# Altium integrated library Infineon_Microcontroller.IntLib: 721 symbols (part 30 of 66)
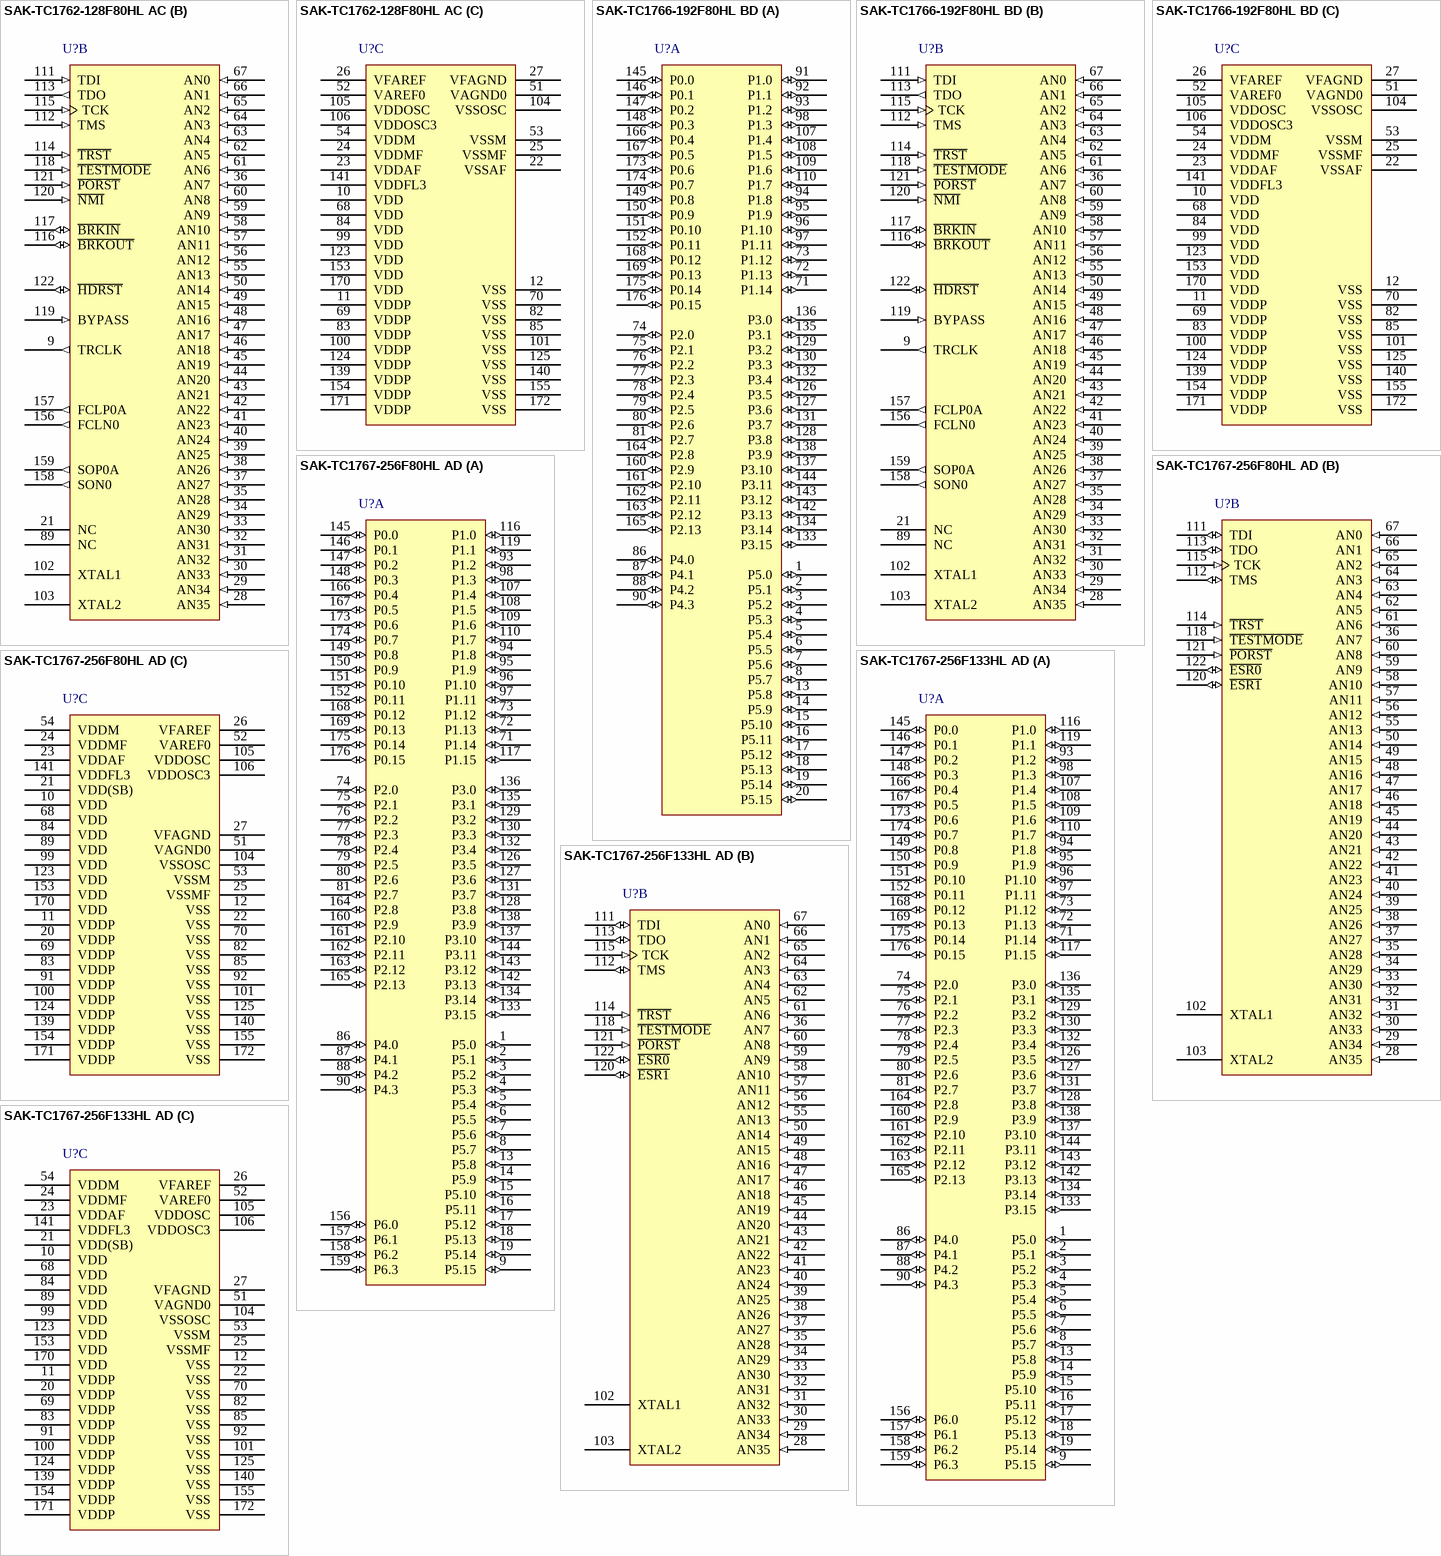
[diagram p147: symbols SAK-TC1762-128F80HL AC to SAK-TC1767-256F133HL AD]

## SAK-TC1766-192F80HL BD
designator U?
80 MHz AUDO MCU with 1.5 MB Program Memory, 108 KByte SRAM, 3.3 V, -40 to 125 degC, PG-LQFP-176, Reel, Green; Manufacturer: Infineon; PartNumber: SAK-TC1766-192F80HL BD; A / D input lines (incl. FADC): 36; CAN Nodes: 2; Digital I/O Lines: 81; DMA Channels: 8; DSP functionality (e.g MDU/MAC): TRUE; External Bus interface: FALSE; I/O Operation Voltages: 3.3 V; Instruction set architecture: TriCore v1.3; Instruction width [bits]: 32/16; LIN BSL loader (for fast Flash programming): FALSE; Max Clock Frequency: 80 MHz; Power Modes: 4; Program Memory: 1.5 MB; Serial I/O Interfaces: 7; Timed I/O Pins (PWM-Ch,CAPCOM): 48; Timer / Counter: 98; Type of Memory: Flash; Type of Serial I/O Interfaces: ASC(2), SSC(2), MSC(1), MLI(2); DatasheetVersion: Rev. 1.0; PackageVersion: Jun-08; PackageReference: PG-LQFP-176-2; PackageDescription: 176-Pin Plastic (Green) Low Profile Quad Flat Package, Body 24 x 24 mm, Pitch 0.5 mm; Supplier 1: Mouser; Supplier Part Number 1: 726-SAKTC1766192F80H; Supplier 2: Digi-Key; Supplier Part Number 2: SAK-TC1766-192F80HLBDINTR-ND; Supplier 3: Digi-Key; Supplier Part Number 3: SAK-TC1766-192F80HLBDINCT-ND; Supplier 4: Digi-Key; Supplier Part Number 4: SAK-TC1766-192F80HLBDINDKR-ND; E2PROM Emulation (Data-Flash): TRUE; FlexRay TM: FALSE; Floating Point Unit: TRUE; Green: TRUE; Halogen-free: TRUE; Number of ADC Modules: 2; On-chip clock generation: TRUE; On-chip Voltage Regulator: FALSE; Oscillator Watchdog: TRUE; Packing: Reel; Peripheral Control Processor (PCP): TRUE; SRAM (incl. Cache): 108 KByte; Watchdog Timer: TRUE; Mounting Technology: Surface Mount; ComponentLink1Description: Manufacturer URL; ComponentLink1URL: http://www.infineon.com/; ComponentLink2Description: Datasheet; ComponentLink2URL: http://www.infineon.com/dgdl/TC1766_ds_v10.pdf?folderId=db3a304412b407950112b409ae7c0343&fileId=db3a304313553140011368a9b40e0224; ComponentLink3Description: Package Specification; ComponentLink3URL: http://www.infineon.com/dgdl/PG-LQFP-176-2-Package_Overview.pdf?folderId=db3a30431a5c32f2011a91a4a6285a2c&fileId=db3a30431a5c32f2011a91a4f6ee5a2d
footprint INF-PG-LQFP-176-2_N (QFP, 176-Leads, Body 24x24mm, Pitch 0.5mm, IPC Medium Density)
footprint INF-PG-LQFP-176-2_L (QFP, 176-Leads, Body 24x24mm, Pitch 0.5mm, IPC High Density)
footprint INF-PG-LQFP-176-2_M (QFP, 176-Leads, Body 24x24mm, Pitch 0.5mm, IPC Low Density)
part A pins: 1 P5.0 (io), 2 P5.1 (io), 3 P5.2 (io), 4 P5.3 (io), 5 P5.4 (io), 6 P5.5 (io), 7 P5.6 (io), 8 P5.7 (io), 13 P5.8 (io), 14 P5.9 (io), 15 P5.10 (io), 16 P5.11 (io), 17 P5.12 (io), 18 P5.13 (io), 19 P5.14 (io), 20 P5.15 (io), 71 P1.14 (io), 72 P1.13 (io), 73 P1.12 (io), 74 P2.0 (io), 75 P2.1 (io), 76 P2.2 (io), 77 P2.3 (io), 78 P2.4 (io), 79 P2.5 (io), 80 P2.6 (io), 81 P2.7 (io), 86 P4.0 (io), 87 P4.1 (io), 88 P4.2 (io), 90 P4.3 (io), 91 P1.0 (io), 92 P1.1 (io), 93 P1.2 (io), 94 P1.8 (io), 95 P1.9 (io), 96 P1.10 (io), 97 P1.11 (io), 98 P1.3 (io), 107 P1.4 (io), 108 P1.5 (io), 109 P1.6 (io), 110 P1.7 (io), 126 P3.5 (io), 127 P3.6 (io), 128 P3.8 (io), 129 P3.2 (io), 130 P3.3 (io), 131 P3.7 (io), 132 P3.4 (io), 133 P3.15 (io), 134 P3.14 (io), 135 P3.1 (io), 136 P3.0 (io), 137 P3.10 (io), 138 P3.9 (io), 142 P3.13 (io), 143 P3.12 (io), 144 P3.11 (io), 145 P0.0 (io), 146 P0.1 (io), 147 P0.2 (io), 148 P0.3 (io), 149 P0.8 (io), 150 P0.9 (io), 151 P0.10 (io), 152 P0.11 (io), 160 P2.9 (io), 161 P2.10 (io), 162 P2.11 (io), 163 P2.12 (io), 164 P2.8 (io), 165 P2.13 (io), 166 P0.4 (io), 167 P0.5 (io), 168 P0.12 (io), 169 P0.13 (io), 173 P0.6 (io), 174 P0.7 (io), 175 P0.14 (io), 176 P0.15 (io)
part B pins: 9 TRCLK (out) "Trace Clock for OCDS_L2 Lines", 21 NC "Not Connected", 28 AN35 (in) "Analog input 35", 29 AN34 (in) "Analog input 34", 30 AN33 (in) "Analog input 33", 31 AN32 (in) "Analog input 32", 32 AN31 (in) "Analog input 31", 33 AN30 (in) "Analog input 30", 34 AN29 (in) "Analog input 29", 35 AN28 (in) "Analog input 28", 36 AN7 (in) "Analog input 7", 37 AN27 (in) "Analog input 27", 38 AN26 (in) "Analog input 26", 39 AN25 (in) "Analog input 25", 40 AN24 (in) "Analog input 24", 41 AN23 (in) "Analog input 23", 42 AN22 (in) "Analog input 22", 43 AN21 (in) "Analog input 21", 44 AN20 (in) "Analog input 20", 45 AN19 (in) "Analog input 19", 46 AN18 (in) "Analog input 18", 47 AN17 (in) "Analog input 17", 48 AN16 (in) "Analog input 16", 49 AN15 (in) "Analog input 15", 50 AN14 (in) "Analog input 14", 55 AN13 (in) "Analog input 13", 56 AN12 (in) "Analog input 12", 57 AN11 (in) "Analog input 11", 58 AN10 (in) "Analog input 10", 59 AN9 (in) "Analog input 9", 60 AN8 (in) "Analog input 8", 61 AN6 (in) "Analog input 6", 62 AN5 (in) "Analog input 5", 63 AN4 (in) "Analog input 4", 64 AN3 (in) "Analog input 3", 65 AN2 (in) "Analog input 2", 66 AN1 (in) "Analog input 1", 67 AN0 (in) "Analog input 0", 89 NC "Not Connected", 102 XTAL1 "Oscillator/PLL/Clock Generator Input Pin", 103 XTAL2 "Oscillator/PLL/Clock Generator Output Pin", 111 TDI (in) "JTAG Module Serial Data Input", 112 TMS (in) "JTAG Module State Machine Control Input", 113 TDO (out) "JTAG Module Serial Data Output", 114 ~{TRST} (in) "JTAG Module Reset/Enable Input", 115 TCK (in) "JTAG Module Clock Input", 116 ~{BRKOUT} (io) "OCDS Break Output (Alternate Input)", 117 ~{BRKIN} (io) "OCDS Break Input (Alternate Output)", 118 ~{TESTMODE} (in) "Test Mode Select Input", 119 BYPASS (in) "PLL Clock Bypass Select Input", 120 ~{NMI} (in) "Non-Maskable Interrupt Input", 121 ~{PORST} (in) "Power-on Reset Input", 122 ~{HDRST} (io) "Hardware Reset Input / Reset Indication Output", 156 FCLN0 (out) "MSC0 Differential Driver Clock Output Negative", 157 FCLP0A (out) "MSC0 Differential Driver Clock Output Positive A", 158 SON0 (out) "MSC0 Differential Driver Serial Data Output Negative", 159 SOP0A (out) "MSC0 Differential Driver Serial Data Output Positive A"
part C pins: 10 VDD (power) "Core Power Supply (1.5 V)", 11 VDDP (power) "Port Power Supply (3.3 V)", 12 VSS (power) "Ground", 22 VSSAF (power) "FADC Analog Part Logic Ground for VDDAF", 23 VDDAF (power) "FADC Analog Part Logic Power Supply (1.5 V)", 24 VDDMF (power) "FADC Analog Part Power Supply (3.3 V)", 25 VSSMF (power) "FADC Analog Part Ground for VDDMF", 26 VFAREF (power) "FADC Reference Voltage", 27 VFAGND (power) "FADC Reference Ground", 51 VAGND0 (power) "ADC Reference Ground", 52 VAREF0 (power) "ADC Reference Voltage", 53 VSSM (power) "ADC Analog Part Ground for VDDM", 54 VDDM (power) "ADC Analog Part Power Supply (3.3 V)", 68 VDD (power) "Core Power Supply (1.5 V)", 69 VDDP (power) "Port Power Supply (3.3 V)", 70 VSS (power) "Ground", 82 VSS (power) "Ground", 83 VDDP (power) "Port Power Supply (3.3 V)", 84 VDD (power) "Core Power Supply (1.5 V)", 85 VSS (power) "Ground", 99 VDD (power) "Core Power Supply (1.5 V)", 100 VDDP (power) "Port Power Supply (3.3 V)", 101 VSS (power) "Ground", 104 VSSOSC (power) "Main Oscillator and PLL Ground", 105 VDDOSC (power) "Main Oscillator and PLL Power Supply (1.5 V)", 106 VDDOSC3 (power) "Main Oscillator Power Supply (3.3 V)", 123 VDD (power) "Core Power Supply (1.5 V)", 124 VDDP (power) "Port Power Supply (3.3 V)", 125 VSS (power) "Ground", 139 VDDP (power) "Port Power Supply (3.3 V)", 140 VSS (power) "Ground", 141 VDDFL3 (power) "Power Supply for Flash (3.3 V)", 153 VDD (power) "Core Power Supply (1.5 V)", 154 VDDP (power) "Port Power Supply (3.3 V)", 155 VSS (power) "Ground", 170 VDD (power) "Core Power Supply (1.5 V)", 171 VDDP (power) "Port Power Supply (3.3 V)", 172 VSS (power) "Ground"

## SAK-TC1767-256F80HL AD
designator U?
80 MHz AUDO MCU with 2 MB Program Memory, 128 KByte SRAM, 3.3 V; 5 V, -40 to 125 degC, PG-LQFP-176, Reel, Green; Manufacturer: Infineon; PartNumber: SAK-TC1767-256F80HL AD; A / D input lines (incl. FADC): 36; CAN Nodes: 2; Digital I/O Lines: 88; DMA Channels: 8; DSP functionality (e.g MDU/MAC): TRUE; External Bus interface: FALSE; I/O Operation Voltages: 3.3 V, 5 V; Instruction set architecture: TriCore v1.3.1; Instruction width [bits]: 32/16; LIN BSL loader (for fast Flash programming): FALSE; Max Clock Frequency: 80 MHz; Power Modes: 3; Program Memory: 2 MB; Serial I/O Interfaces: 6; Timed I/O Pins (PWM-Ch,CAPCOM): 80; Timer / Counter: 130; Type of Memory: Flash; Type of Serial I/O Interfaces: ASC(2), SSC(2), MSC(1), MLI(1); DatasheetVersion: Rev. 1.3; PackageVersion: Aug-08; PackageReference: PG-LQFP-176-5; PackageDescription: 176-Pin Plastic (Green) Low Profile Quad Flat Package, Body 24 x 24 mm, Pitch 0.5 mm; Supplier 1: Digi-Key; Supplier Part Number 1: SAK-TC1767-256F80HL AD-ND; E2PROM Emulation (Data-Flash): TRUE; FlexRay TM: FALSE; Floating Point Unit: TRUE; Green: TRUE; Number of ADC Modules: 2; On-chip clock generation: TRUE; On-chip Voltage Regulator: FALSE; Oscillator Watchdog: TRUE; Packing: Reel; Peripheral Control Processor (PCP): TRUE; SRAM (incl. Cache): 128 KByte; Watchdog Timer: TRUE; Mounting Technology: Surface Mount; ComponentLink1Description: Manufacturer URL; ComponentLink1URL: http://www.infineon.com/; ComponentLink2Description: Datasheet; ComponentLink2URL: http://www.infineon.com/dgdl/TC1767_DS_V1.3.pdf?folderId=db3a3043156fd5730115b892639c0e97&fileId=db3a30431be39b97011bff8570697bdb; ComponentLink3Description: Package Specification; ComponentLink3URL: http://www.infineon.com/dgdl/PG-LQFP-176-5-Package_Overview.pdf?folderId=db3a30431b3e89eb011b9dcad2aa0d1e&fileId=db3a30431b3e89eb011bc12d64b30464
footprint INF-PG-LQFP-176-5_N (QFP, 176-Leads, Body 24x24mm, Pitch 0.5mm, IPC Medium Density)
footprint INF-PG-LQFP-176-5_L (QFP, 176-Leads, Body 24x24mm, Pitch 0.5mm, IPC High Density)
footprint INF-PG-LQFP-176-5_M (QFP, 176-Leads, Body 24x24mm, Pitch 0.5mm,IPC Low Density)
part A pins: 1 P5.0 (io), 2 P5.1 (io), 3 P5.2 (io), 4 P5.3 (io), 5 P5.4 (io), 6 P5.5 (io), 7 P5.6 (io), 8 P5.7 (io), 9 P5.15 (io), 13 P5.8 (io), 14 P5.9 (io), 15 P5.10 (io), 16 P5.11 (io), 17 P5.12 (io), 18 P5.13 (io), 19 P5.14 (io), 71 P1.14 (io), 72 P1.13 (io), 73 P1.12 (io), 74 P2.0 (io), 75 P2.1 (io), 76 P2.2 (io), 77 P2.3 (io), 78 P2.4 (io), 79 P2.5 (io), 80 P2.6 (io), 81 P2.7 (io), 86 P4.0 (io), 87 P4.1 (io), 88 P4.2 (io), 90 P4.3 (io), 93 P1.2 (io), 94 P1.8 (io), 95 P1.9 (io), 96 P1.10 (io), 97 P1.11 (io), 98 P1.3 (io), 107 P1.4 (io), 108 P1.5 (io), 109 P1.6 (io), 110 P1.7 (io), 116 P1.0 (io), 117 P1.15 (io), 119 P1.1 (io), 126 P3.5 (io), 127 P3.6 (io), 128 P3.8 (io), 129 P3.2 (io), 130 P3.3 (io), 131 P3.7 (io), 132 P3.4 (io), 133 P3.15 (io), 134 P3.14 (io), 135 P3.1 (io), 136 P3.0 (io), 137 P3.10 (io), 138 P3.9 (io), 142 P3.13 (io), 143 P3.12 (io), 144 P3.11 (io), 145 P0.0 (io), 146 P0.1 (io), 147 P0.2 (io), 148 P0.3 (io), 149 P0.8 (io), 150 P0.9 (io), 151 P0.10 (io), 152 P0.11 (io), 156 P6.0 (io), 157 P6.1 (io), 158 P6.2 (io), 159 P6.3 (io), 160 P2.9 (io), 161 P2.10 (io), 162 P2.11 (io), 163 P2.12 (io), 164 P2.8 (io), 165 P2.13 (io), 166 P0.4 (io), 167 P0.5 (io), 168 P0.12 (io), 169 P0.13 (io), 173 P0.6 (io), 174 P0.7 (io), 175 P0.14 (io), 176 P0.15 (io)
part B pins: 28 AN35 (in) "Analog Input 35", 29 AN34 (in) "Analog Input 34", 30 AN33 (in) "Analog Input 33", 31 AN32 (in) "Analog Input 32", 32 AN31 (in) "Analog Input 31", 33 AN30 (in) "Analog Input 30", 34 AN29 (in) "Analog Input 29", 35 AN28 (in) "Analog Input 28", 36 AN7 (in) "Analog Input 7", 37 AN27 (in) "Analog Input 27", 38 AN26 (in) "Analog Input 26", 39 AN25 (in) "Analog Input 25", 40 AN24 (in) "Analog Input 24", 41 AN23 (in) "Analog Input 23", 42 AN22 (in) "Analog Input 22", 43 AN21 (in) "Analog Input 21", 44 AN20 (in) "Analog Input 20", 45 AN19 (in) "Analog Input 19", 46 AN18 (in) "Analog Input 18", 47 AN17 (in) "Analog Input 17", 48 AN16 (in) "Analog Input 16", 49 AN15 (in) "Analog Input 15", 50 AN14 (in) "Analog Input 14", 55 AN13 (in) "Analog Input 13", 56 AN12 (in) "Analog Input 12", 57 AN11 (in) "Analog Input 11", 58 AN10 (in) "Analog Input 10", 59 AN9 (in) "Analog Input 9", 60 AN8 (in) "Analog Input 8", 61 AN6 (in) "Analog Input 6", 62 AN5 (in) "Analog Input 5", 63 AN4 (in) "Analog Input 4", 64 AN3 (in) "Analog Input 3", 65 AN2 (in) "Analog Input 2", 66 AN1 (in) "Analog Input 1", 67 AN0 (in) "Analog Input 0", 102 XTAL1 "Main Oscillator Input", 103 XTAL2 "Main Oscillator Output", 111 TDI (io), 112 TMS (io), 113 TDO (io), 114 ~{TRST} (in) "JTAG Reset Input", 115 TCK (in), 118 ~{TESTMODE} (in) "Test Mode Select Input", 120 ~{ESR1} (io) "External System Request Reset Input 1", 121 ~{PORST} (in) "Power On Reset Input", 122 ~{ESR0} (io) "External System Request Reset Input 0"
part C pins: 10 VDD (power) "Digital Core Power Supply (1.5V)", 11 VDDP (power) "Port Power Supply (3.3V)", 12 VSS (power) "Digital Ground", 20 VDDP (power) "Port Power Supply (3.3V)", 21 VDD(SB) (power) "Digital Core Power Supply (1.5V)", 22 VSS (power) "Digital Ground", 23 VDDAF (power) "FADC Analog Part Logic Power Supply (1.5V)", 24 VDDMF (power) "FADC Analog Part Power Supply (3.3V)", 25 VSSMF (power), 26 VFAREF (power) "FADC Reference Voltage", 27 VFAGND (power) "FADC Reference Ground", 51 VAGND0 (power) "ADC Reference Ground", 52 VAREF0 (power), 53 VSSM (power) "ADC Analog Part Ground", 54 VDDM (power) "ADC Analog Part Power Supply (3.3V - 5V)", 68 VDD (power) "Digital Core Power Supply (1.5V)", 69 VDDP (power) "Port Power Supply (3.3V)", 70 VSS (power) "Digital Ground", 82 VSS (power) "Digital Ground", 83 VDDP (power) "Port Power Supply (3.3V)", 84 VDD (power) "Digital Core Power Supply (1.5V)", 85 VSS (power) "Digital Ground", 89 VDD (power) "Digital Core Power Supply (1.5V)", 91 VDDP (power) "Port Power Supply (3.3V)", 92 VSS (power) "Digital Ground", 99 VDD (power) "Digital Core Power Supply (1.5V)", 100 VDDP (power) "Port Power Supply (3.3V)", 101 VSS (power) "Digital Ground", 104 VSSOSC (power) "Main Oscillator and PLL Ground", 105 VDDOSC (power) "Main Oscillator and PLL Power Supply (1.5V)", 106 VDDOSC3 (power) "Main Oscillator Power Supply (3.3V)", 123 VDD (power) "Digital Core Power Supply (1.5V)", 124 VDDP (power) "Port Power Supply (3.3V)", 125 VSS (power) "Digital Ground", 139 VDDP (power) "Port Power Supply (3.3V)", 140 VSS (power) "Digital Ground", 141 VDDFL3 (power) "Power Supply for Flash (3.3V)", 153 VDD (power) "Digital Core Power Supply (1.5V)", 154 VDDP (power) "Port Power Supply (3.3V)", 155 VSS (power) "Digital Ground", 170 VDD (power) "Digital Core Power Supply (1.5V)", 171 VDDP (power) "Port Power Supply (3.3V)", 172 VSS (power) "Digital Ground"

## SAK-TC1767-256F133HL AD
designator U?
133 MHz AUDO MCU with 2 MB Program Memory, 128 KByte SRAM, 3.3 V; 5 V, -40 to 125 degC, PG-LQFP-176, Reel, Green; Manufacturer: Infineon; PartNumber: SAK-TC1767-256F133HL AD; A / D input lines (incl. FADC): 36; CAN Nodes: 2; Digital I/O Lines: 88; DMA Channels: 8; DSP functionality (e.g MDU/MAC): TRUE; External Bus interface: FALSE; I/O Operation Voltages: 3.3 V, 5 V; Instruction set architecture: TriCore v1.3.1; Instruction width [bits]: 32/16; LIN BSL loader (for fast Flash programming): FALSE; Max Clock Frequency: 133 MHz; Power Modes: 3; Program Memory: 2 MB; Serial I/O Interfaces: 6; Timed I/O Pins (PWM-Ch,CAPCOM): 80; Timer / Counter: 130; Type of Memory: Flash; Type of Serial I/O Interfaces: ASC(2), SSC(2), MSC(1), MLI(1); DatasheetVersion: Rev. 1.3; PackageVersion: Aug-08; PackageReference: PG-LQFP-176-5; PackageDescription: 176-Pin Plastic (Green) Low Profile Quad Flat Package, Body 24 x 24 mm, Pitch 0.5 mm; Supplier 1: Newark; Supplier Part Number 1: 47W3709; Supplier 2: Farnell; Supplier Part Number 2: 2212016; Supplier 3: Digi-Key; Supplier Part Number 3: SAK-TC1767-256F133HL AD-ND; E2PROM Emulation (Data-Flash): TRUE; FlexRay TM: FALSE; Floating Point Unit: TRUE; Green: TRUE; Number of ADC Modules: 2; On-chip clock generation: TRUE; On-chip Voltage Regulator: FALSE; Oscillator Watchdog: TRUE; Packing: Reel; Peripheral Control Processor (PCP): TRUE; SRAM (incl. Cache): 128 KByte; Watchdog Timer: TRUE; Mounting Technology: Surface Mount; ComponentLink1Description: Manufacturer URL; ComponentLink1URL: http://www.infineon.com/; ComponentLink2Description: Datasheet; ComponentLink2URL: http://www.infineon.com/dgdl/TC1767_DS_V1.3.pdf?folderId=db3a3043156fd5730115b892639c0e97&fileId=db3a30431be39b97011bff8570697bdb; ComponentLink3Description: Package Specification; ComponentLink3URL: http://www.infineon.com/dgdl/PG-LQFP-176-5-Package_Overview.pdf?folderId=db3a30431b3e89eb011b9dcad2aa0d1e&fileId=db3a30431b3e89eb011bc12d64b30464
footprint INF-PG-LQFP-176-5_N (QFP, 176-Leads, Body 24x24mm, Pitch 0.5mm, IPC Medium Density)
footprint INF-PG-LQFP-176-5_L (QFP, 176-Leads, Body 24x24mm, Pitch 0.5mm, IPC High Density)
footprint INF-PG-LQFP-176-5_M (QFP, 176-Leads, Body 24x24mm, Pitch 0.5mm,IPC Low Density)
part A pins: 1 P5.0 (io), 2 P5.1 (io), 3 P5.2 (io), 4 P5.3 (io), 5 P5.4 (io), 6 P5.5 (io), 7 P5.6 (io), 8 P5.7 (io), 9 P5.15 (io), 13 P5.8 (io), 14 P5.9 (io), 15 P5.10 (io), 16 P5.11 (io), 17 P5.12 (io), 18 P5.13 (io), 19 P5.14 (io), 71 P1.14 (io), 72 P1.13 (io), 73 P1.12 (io), 74 P2.0 (io), 75 P2.1 (io), 76 P2.2 (io), 77 P2.3 (io), 78 P2.4 (io), 79 P2.5 (io), 80 P2.6 (io), 81 P2.7 (io), 86 P4.0 (io), 87 P4.1 (io), 88 P4.2 (io), 90 P4.3 (io), 93 P1.2 (io), 94 P1.8 (io), 95 P1.9 (io), 96 P1.10 (io), 97 P1.11 (io), 98 P1.3 (io), 107 P1.4 (io), 108 P1.5 (io), 109 P1.6 (io), 110 P1.7 (io), 116 P1.0 (io), 117 P1.15 (io), 119 P1.1 (io), 126 P3.5 (io), 127 P3.6 (io), 128 P3.8 (io), 129 P3.2 (io), 130 P3.3 (io), 131 P3.7 (io), 132 P3.4 (io), 133 P3.15 (io), 134 P3.14 (io), 135 P3.1 (io), 136 P3.0 (io), 137 P3.10 (io), 138 P3.9 (io), 142 P3.13 (io), 143 P3.12 (io), 144 P3.11 (io), 145 P0.0 (io), 146 P0.1 (io), 147 P0.2 (io), 148 P0.3 (io), 149 P0.8 (io), 150 P0.9 (io), 151 P0.10 (io), 152 P0.11 (io), 156 P6.0 (io), 157 P6.1 (io), 158 P6.2 (io), 159 P6.3 (io), 160 P2.9 (io), 161 P2.10 (io), 162 P2.11 (io), 163 P2.12 (io), 164 P2.8 (io), 165 P2.13 (io), 166 P0.4 (io), 167 P0.5 (io), 168 P0.12 (io), 169 P0.13 (io), 173 P0.6 (io), 174 P0.7 (io), 175 P0.14 (io), 176 P0.15 (io)
part B pins: 28 AN35 (in) "Analog Input 35", 29 AN34 (in) "Analog Input 34", 30 AN33 (in) "Analog Input 33", 31 AN32 (in) "Analog Input 32", 32 AN31 (in) "Analog Input 31", 33 AN30 (in) "Analog Input 30", 34 AN29 (in) "Analog Input 29", 35 AN28 (in) "Analog Input 28", 36 AN7 (in) "Analog Input 7", 37 AN27 (in) "Analog Input 27", 38 AN26 (in) "Analog Input 26", 39 AN25 (in) "Analog Input 25", 40 AN24 (in) "Analog Input 24", 41 AN23 (in) "Analog Input 23", 42 AN22 (in) "Analog Input 22", 43 AN21 (in) "Analog Input 21", 44 AN20 (in) "Analog Input 20", 45 AN19 (in) "Analog Input 19", 46 AN18 (in) "Analog Input 18", 47 AN17 (in) "Analog Input 17", 48 AN16 (in) "Analog Input 16", 49 AN15 (in) "Analog Input 15", 50 AN14 (in) "Analog Input 14", 55 AN13 (in) "Analog Input 13", 56 AN12 (in) "Analog Input 12", 57 AN11 (in) "Analog Input 11", 58 AN10 (in) "Analog Input 10", 59 AN9 (in) "Analog Input 9", 60 AN8 (in) "Analog Input 8", 61 AN6 (in) "Analog Input 6", 62 AN5 (in) "Analog Input 5", 63 AN4 (in) "Analog Input 4", 64 AN3 (in) "Analog Input 3", 65 AN2 (in) "Analog Input 2", 66 AN1 (in) "Analog Input 1", 67 AN0 (in) "Analog Input 0", 102 XTAL1 "Main Oscillator Input", 103 XTAL2 "Main Oscillator Output", 111 TDI (io), 112 TMS (io), 113 TDO (io), 114 ~{TRST} (in) "JTAG Reset Input", 115 TCK (in), 118 ~{TESTMODE} (in) "Test Mode Select Input", 120 ~{ESR1} (io) "External System Request Reset Input 1", 121 ~{PORST} (in) "Power On Reset Input", 122 ~{ESR0} (io) "External System Request Reset Input 0"
part C pins: 10 VDD (power) "Digital Core Power Supply (1.5V)", 11 VDDP (power) "Port Power Supply (3.3V)", 12 VSS (power) "Digital Ground", 20 VDDP (power) "Port Power Supply (3.3V)", 21 VDD(SB) (power) "Digital Core Power Supply (1.5V)", 22 VSS (power) "Digital Ground", 23 VDDAF (power) "FADC Analog Part Logic Power Supply (1.5V)", 24 VDDMF (power) "FADC Analog Part Power Supply (3.3V)", 25 VSSMF (power), 26 VFAREF (power) "FADC Reference Voltage", 27 VFAGND (power) "FADC Reference Ground", 51 VAGND0 (power) "ADC Reference Ground", 52 VAREF0 (power), 53 VSSM (power) "ADC Analog Part Ground", 54 VDDM (power) "ADC Analog Part Power Supply (3.3V - 5V)", 68 VDD (power) "Digital Core Power Supply (1.5V)", 69 VDDP (power) "Port Power Supply (3.3V)", 70 VSS (power) "Digital Ground", 82 VSS (power) "Digital Ground", 83 VDDP (power) "Port Power Supply (3.3V)", 84 VDD (power) "Digital Core Power Supply (1.5V)", 85 VSS (power) "Digital Ground", 89 VDD (power) "Digital Core Power Supply (1.5V)", 91 VDDP (power) "Port Power Supply (3.3V)", 92 VSS (power) "Digital Ground", 99 VDD (power) "Digital Core Power Supply (1.5V)", 100 VDDP (power) "Port Power Supply (3.3V)", 101 VSS (power) "Digital Ground", 104 VSSOSC (power) "Main Oscillator and PLL Ground", 105 VDDOSC (power) "Main Oscillator and PLL Power Supply (1.5V)", 106 VDDOSC3 (power) "Main Oscillator Power Supply (3.3V)", 123 VDD (power) "Digital Core Power Supply (1.5V)", 124 VDDP (power) "Port Power Supply (3.3V)", 125 VSS (power) "Digital Ground", 139 VDDP (power) "Port Power Supply (3.3V)", 140 VSS (power) "Digital Ground", 141 VDDFL3 (power) "Power Supply for Flash (3.3V)", 153 VDD (power) "Digital Core Power Supply (1.5V)", 154 VDDP (power) "Port Power Supply (3.3V)", 155 VSS (power) "Digital Ground", 170 VDD (power) "Digital Core Power Supply (1.5V)", 171 VDDP (power) "Port Power Supply (3.3V)", 172 VSS (power) "Digital Ground"

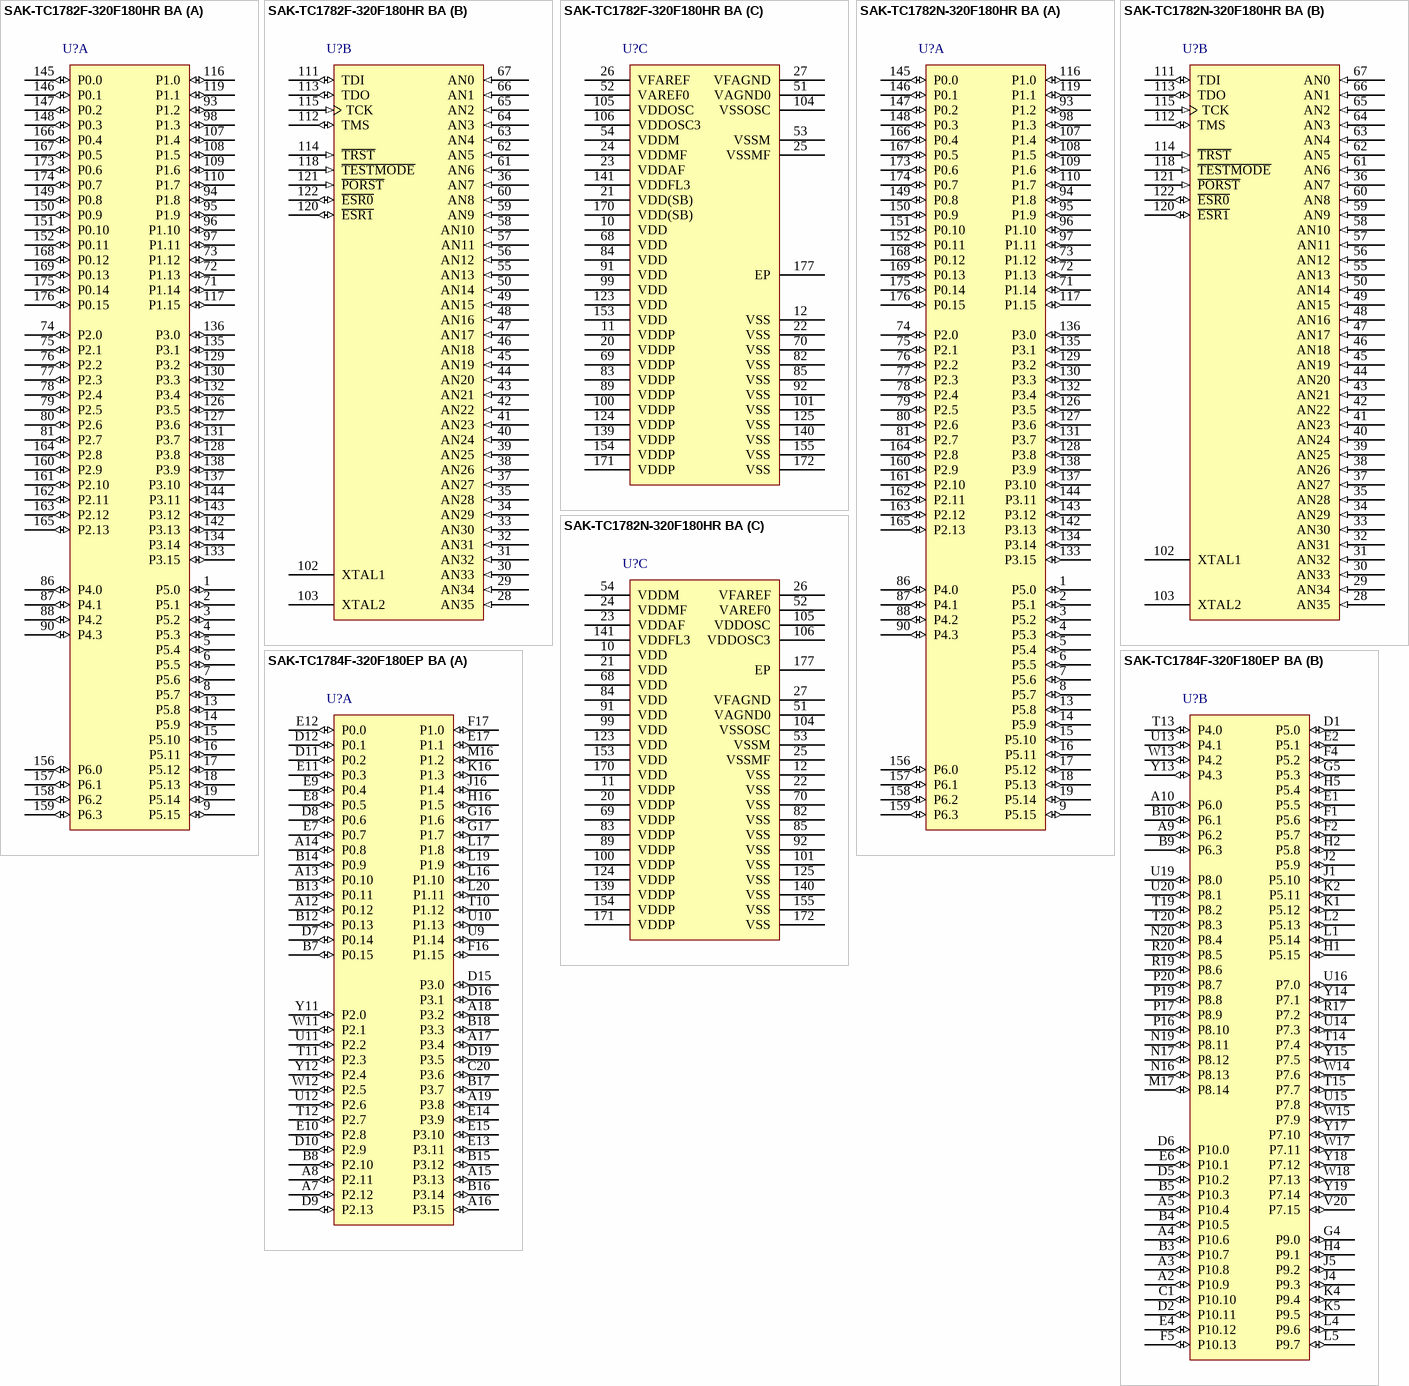
[diagram p53: symbols SAK-TC1782F-320F180HR BA to SAK-TC1784F-320F180EP BA]

## SAK-TC1782F-320F180HR BA
designator U?
180 MHz AUDO MCU with 2.5 MB Program Memory, 176 KByte SRAM, 3.3 V, -40 to 125 degC, PG-LQFP-176, Reel, Green; Manufacturer: Infineon; PartNumber: SAK-TC1782F-320F180HR BA; A / D input lines (incl. FADC): 36; CAN Nodes: 3; Digital I/O Lines: 86; DMA Channels: 16; DSP functionality (e.g MDU/MAC): TRUE; External Bus interface: FALSE; I/O Operation Voltages: 3.3 V; Instruction set architecture: TriCore v1.3.1; Instruction width [bits]: 32/16; LIN BSL loader (for fast Flash programming): FALSE; Max Clock Frequency: 180 MHz; Number of ADC Modules: 2; Program Memory: 2.5 MB; Serial I/O Interfaces: 7; Timed I/O Pins (PWM-Ch,CAPCOM): 80; Timer / Counter: 128; Type of Memory: Flash; Type of Serial I/O Interfaces: ASC(2), SSC(3), MSC(1), MLI(1); DatasheetVersion: Rev. 1.3; PackageVersion: V1.0, 02/2012; PackageReference: PG-LQFP-176-10; PackageDescription: 176-Pin Plastic (Green) Low Profile Quad Flat Package, Body 24 x 24 mm, Pitch 0.5 mm; E2PROM Emulation (Data-Flash): TRUE; FlexRay TM: TRUE; Floating Point Unit: TRUE; Green: TRUE; Halogen-free: TRUE; On-chip clock generation: TRUE; On-chip Voltage Regulator: TRUE; Oscillator Watchdog: TRUE; Packing: Reel; Peripheral Control Processor (PCP): TRUE; Power Modes: 3; SRAM (incl. Cache): 176 KByte; Watchdog Timer: TRUE; Mounting Technology: Surface Mount; Code_JEDEC: J-STD-020C; ComponentLink1Description: Manufacturer URL; ComponentLink1URL: http://www.infineon.com/; ComponentLink2Description: Datasheet; ComponentLink2URL: http://www.infineon.com/dgdl/TC1782_DS_v13.pdf?folderId=db3a304326dfb1300127000d958f65bb&fileId=db3a3043271faefd01274d48e12d5d56; ComponentLink3Description: Package Specification; ComponentLink3URL: http://www.infineon.com/dgdl/TC1728_DS_V1_0.pdf?folderId=db3a304412b407950112b409ae7c0343&fileId=db3a304335c2937a0135e269414c4412
footprint INF-PG-LQFP-176-10_N (QFP, 176-Leads, Body 24x24mm, Pitch 0.5mm, Thermal Pad 7.5x7.5mm, IPC Medium Density)
footprint INF-PG-LQFP-176-10_L (QFP, 176-Leads, Body 24x24mm, Pitch 0.5mm, Thermal Pad 7.5x7.5mm, IPC High Density)
footprint INF-PG-LQFP-176-10_M (QFP, 176-Leads, Body 24x24mm, Pitch 0.5mm, Thermal Pad 7.5x7.5mm, IPC Low Density)
part A pins: 1 P5.0 (io), 2 P5.1 (io), 3 P5.2 (io), 4 P5.3 (io), 5 P5.4 (io), 6 P5.5 (io), 7 P5.6 (io), 8 P5.7 (io), 9 P5.15 (io), 13 P5.8 (io), 14 P5.9 (io), 15 P5.10 (io), 16 P5.11 (io), 17 P5.12 (io), 18 P5.13 (io), 19 P5.14 (io), 71 P1.14 (io), 72 P1.13 (io), 73 P1.12 (io), 74 P2.0 (io), 75 P2.1 (io), 76 P2.2 (io), 77 P2.3 (io), 78 P2.4 (io), 79 P2.5 (io), 80 P2.6 (io), 81 P2.7 (io), 86 P4.0 (io), 87 P4.1 (io), 88 P4.2 (io), 90 P4.3 (io), 93 P1.2 (io), 94 P1.8 (io), 95 P1.9 (io), 96 P1.10 (io), 97 P1.11 (io), 98 P1.3 (io), 107 P1.4 (io), 108 P1.5 (io), 109 P1.6 (io), 110 P1.7 (io), 116 P1.0 (io), 117 P1.15 (io), 119 P1.1 (io), 126 P3.5 (io), 127 P3.6 (io), 128 P3.8 (io), 129 P3.2 (io), 130 P3.3 (io), 131 P3.7 (io), 132 P3.4 (io), 133 P3.15 (io), 134 P3.14 (io), 135 P3.1 (io), 136 P3.0 (io), 137 P3.10 (io), 138 P3.9 (io), 142 P3.13 (io), 143 P3.12 (io), 144 P3.11 (io), 145 P0.0 (io), 146 P0.1 (io), 147 P0.2 (io), 148 P0.3 (io), 149 P0.8 (io), 150 P0.9 (io), 151 P0.10 (io), 152 P0.11 (io), 156 P6.0 (io), 157 P6.1 (io), 158 P6.2 (io), 159 P6.3 (io), 160 P2.9 (io), 161 P2.10 (io), 162 P2.11 (io), 163 P2.12 (io), 164 P2.8 (io), 165 P2.13 (io), 166 P0.4 (io), 167 P0.5 (io), 168 P0.12 (io), 169 P0.13 (io), 173 P0.6 (io), 174 P0.7 (io), 175 P0.14 (io), 176 P0.15 (io)
part B pins: 28 AN35 (in) "FADC Analog Input N Channel 1", 29 AN34 (in) "FADC Analog Input P Channel 1", 30 AN33 (in) "FADC Analog Input N Channel 0", 31 AN32 (in) "FADC Analog Input P Channel 0", 32 AN31 (in) "ADC1 / FADC Analog Input Channel 31", 33 AN30 (in) "ADC1 / FADC Analog Input Channel 30", 34 AN29 (in) "ADC1 / FADC Analog Input Channel 29", 35 AN28 (in) "ADC1 / FADC Analog Input Channel 28", 36 AN7 (in) "ADC0 Analog Input Channel 7", 37 AN27 (in) "ADC1 Analog Input Channel 27", 38 AN26 (in) "ADC1 Analog Input Channel 26", 39 AN25 (in) "ADC1 Analog Input Channel 25", 40 AN24 (in) "ADC1 Analog Input Channel 24", 41 AN23 (in) "ADC1 Analog Input Channel 23", 42 AN22 (in) "ADC1 Analog Input Channel 22", 43 AN21 (in) "ADC1 Analog Input Channel 21", 44 AN20 (in) "ADC1 Analog Input Channel 20", 45 AN19 (in) "ADC1 Analog Input Channel 19", 46 AN18 (in) "ADC1 Analog Input Channel 18", 47 AN17 (in) "ADC1 Analog Input Channel 17", 48 AN16 (in) "ADC1 Analog Input Channel 16", 49 AN15 (in) "ADC0 Analog Input Channel 15", 50 AN14 (in) "ADC0 Analog Input Channel 14", 55 AN13 (in) "ADC0 Analog Input Channel 13", 56 AN12 (in) "ADC0 Analog Input Channel 12", 57 AN11 (in) "ADC0 Analog Input Channel 11", 58 AN10 (in) "ADC0 Analog Input Channel 10", 59 AN9 (in) "ADC0 Analog Input Channel 9", 60 AN8 (in) "ADC0 Analog Input Channel 8", 61 AN6 (in) "ADC0 Analog Input Channel 6", 62 AN5 (in) "ADC0 Analog Input Channel 5", 63 AN4 (in) "ADC0 Analog Input Channel 4", 64 AN3 (in) "ADC0 Analog Input Channel 3", 65 AN2 (in) "ADC0 Analog Input Channel 2", 66 AN1 (in) "ADC0 Analog Input Channel 1", 67 AN0 (in) "ADC0 Analog Input Channel 0", 102 XTAL1 "Main Oscillator Input", 103 XTAL2 "Main Oscillator Output", 111 TDI (io), 112 TMS (io), 113 TDO (io), 114 ~{TRST} (in) "JTAG Reset Input", 115 TCK (in), 118 ~{TESTMODE} (in) "Test Mode Select Input", 120 ~{ESR1} (io) "External System Request Reset Input 1", 121 ~{PORST} (in) "Power On Reset Input", 122 ~{ESR0} (io) "External System Request Reset Input 0"
part C pins: 10 VDD (power) "Digital Core Power Supply (1.3V)", 11 VDDP (power) "Port Power Supply (3.3V)", 12 VSS (power) "Digital Ground", 20 VDDP (power) "Port Power Supply (3.3V)", 21 VDD(SB) (power) "Digital Core Power Supply (1.3V)", 22 VSS (power) "Digital Ground", 23 VDDAF (power) "FADC Analog Part Logic Power Supply (1.3V)", 24 VDDMF (power) "FADC Analog Part Power Supply (3.3V)", 25 VSSMF (power) "FADC Analog Part Ground", 26 VFAREF (power) "FADC Reference Voltage", 27 VFAGND (power) "FADC Reference Ground", 51 VAGND0 (power) "ADC Reference Ground", 52 VAREF0 (power) "ADC0 and ADC1 Reference Voltage", 53 VSSM (power) "ADC Analog Part Ground", 54 VDDM (power) "ADC Analog Part Power Supply (3.3V - 5V)", 68 VDD (power) "Digital Core Power Supply (1.3V)", 69 VDDP (power) "Port Power Supply (3.3V)", 70 VSS (power) "Digital Ground", 82 VSS (power) "Digital Ground", 83 VDDP (power) "Port Power Supply (3.3V)", 84 VDD (power) "Digital Core Power Supply (1.3V)", 85 VSS (power) "Digital Ground", 89 VDDP (power) "Port Power Supply (3.3V)", 91 VDD (power) "Digital Core Power Supply (1.3V)", 92 VSS (power) "Digital Ground", 99 VDD (power) "Digital Core Power Supply (1.3V)", 100 VDDP (power) "Port Power Supply (3.3V)", 101 VSS (power) "Digital Ground", 104 VSSOSC (power) "Main Oscillator and PLL Ground", 105 VDDOSC (power) "Main Oscillator and PLL Power Supply (1.3V)", 106 VDDOSC3 (power) "Main Oscillator Power Supply (3.3V)", 123 VDD (power) "Digital Core Power Supply (1.3V)", 124 VDDP (power) "Port Power Supply (3.3V)", 125 VSS (power) "Digital Ground", 139 VDDP (power) "Port Power Supply (3.3V)", 140 VSS (power) "Digital Ground", 141 VDDFL3 (power) "Power Supply for Flash (3.3V)", 153 VDD (power) "Digital Core Power Supply (1.3V)", 154 VDDP (power) "Port Power Supply (3.3V)", 155 VSS (power) "Digital Ground", 170 VDD(SB) (power) "Digital Core Power Supply (1.3V)", 171 VDDP (power) "Port Power Supply (3.3V)", 172 VSS (power) "Digital Ground", 177 EP "Exposed Pad"

## SAK-TC1782N-320F180HR BA
designator U?
180 MHz AUDO MCU with 2.5 MB Program Memory, 176 KByte SRAM, 3.3 V, -40 to 125 degC, PG-LQFP-176, Reel, Green; Manufacturer: Infineon; PartNumber: SAK-TC1782N-320F180HR BA; A / D input lines (incl. FADC): 36; CAN Nodes: 3; Digital I/O Lines: 86; DMA Channels: 16; DSP functionality (e.g MDU/MAC): TRUE; External Bus interface: FALSE; I/O Operation Voltages: 3.3 V; Instruction set architecture: TriCore v1.3.1; Instruction width [bits]: 32/16; LIN BSL loader (for fast Flash programming): FALSE; Max Clock Frequency: 180 MHz; Number of ADC Modules: 2; Program Memory: 2.5 MB; Serial I/O Interfaces: 7; Timed I/O Pins (PWM-Ch,CAPCOM): 80; Timer / Counter: 128; Type of Memory: Flash; Type of Serial I/O Interfaces: ASC(2), SSC(3), MSC(1), MLI(1); DatasheetVersion: Rev. 1.3; PackageVersion: V1.3, 06/2012; PackageReference: PG-LQFP-176-6; PackageDescription: 176-Pin Plastic (Green) Low Profile Quad Flat Package, Body 24 x 24 mm, Pitch 0.5 mm; E2PROM Emulation (Data-Flash): TRUE; FlexRay TM: FALSE; Floating Point Unit: TRUE; Green: TRUE; Halogen-free: TRUE; On-chip clock generation: TRUE; On-chip Voltage Regulator: FALSE; Oscillator Watchdog: TRUE; Packing: Reel; Peripheral Control Processor (PCP): TRUE; Power Modes: 3; SRAM (incl. Cache): 176 KByte; Watchdog Timer: TRUE; Mounting Technology: Surface Mount; Code_JEDEC: J-STD-020C; ComponentLink1Description: Manufacturer URL; ComponentLink1URL: http://www.infineon.com/; ComponentLink2Description: Datasheet; ComponentLink2URL: http://www.infineon.com/dgdl/TC1782_DS_v13.pdf?folderId=db3a304326dfb1300127000d958f65bb&fileId=db3a3043271faefd01274d48e12d5d56; ComponentLink3Description: Package Specification; ComponentLink3URL: http://www.infineon.com/dgdl/TC1782_DS_v13.pdf?folderId=db3a304326dfb1300127000d958f65bb&fileId=db3a3043271faefd01274d48e12d5d56
footprint INF-PG-LQFP-176-6_N (QFP, 176-Leads, Body 24x24mm, Pitch 0.5mm, Thermal Pad 7.8x7.8mm, IPC Medium Density)
footprint INF-PG-LQFP-176-6_L (QFP, 176-Leads, Body 24x24mm, Pitch 0.5mm, Thermal Pad 7.8x7.8mm, IPC High Density)
footprint INF-PG-LQFP-176-6_M (QFP, 176-Leads, Body 24x24mm, Pitch 0.5mm, Thermal Pad 7.8x7.8mm, IPC Low Density)
part A pins: 1 P5.0 (io), 2 P5.1 (io), 3 P5.2 (io), 4 P5.3 (io), 5 P5.4 (io), 6 P5.5 (io), 7 P5.6 (io), 8 P5.7 (io), 9 P5.15 (io), 13 P5.8 (io), 14 P5.9 (io), 15 P5.10 (io), 16 P5.11 (io), 17 P5.12 (io), 18 P5.13 (io), 19 P5.14 (io), 71 P1.14 (io), 72 P1.13 (io), 73 P1.12 (io), 74 P2.0 (io), 75 P2.1 (io), 76 P2.2 (io), 77 P2.3 (io), 78 P2.4 (io), 79 P2.5 (io), 80 P2.6 (io), 81 P2.7 (io), 86 P4.0 (io), 87 P4.1 (io), 88 P4.2 (io), 90 P4.3 (io), 93 P1.2 (io), 94 P1.8 (io), 95 P1.9 (io), 96 P1.10 (io), 97 P1.11 (io), 98 P1.3 (io), 107 P1.4 (io), 108 P1.5 (io), 109 P1.6 (io), 110 P1.7 (io), 116 P1.0 (io), 117 P1.15 (io), 119 P1.1 (io), 126 P3.5 (io), 127 P3.6 (io), 128 P3.8 (io), 129 P3.2 (io), 130 P3.3 (io), 131 P3.7 (io), 132 P3.4 (io), 133 P3.15 (io), 134 P3.14 (io), 135 P3.1 (io), 136 P3.0 (io), 137 P3.10 (io), 138 P3.9 (io), 142 P3.13 (io), 143 P3.12 (io), 144 P3.11 (io), 145 P0.0 (io), 146 P0.1 (io), 147 P0.2 (io), 148 P0.3 (io), 149 P0.8 (io), 150 P0.9 (io), 151 P0.10 (io), 152 P0.11 (io), 156 P6.0 (io), 157 P6.1 (io), 158 P6.2 (io), 159 P6.3 (io), 160 P2.9 (io), 161 P2.10 (io), 162 P2.11 (io), 163 P2.12 (io), 164 P2.8 (io), 165 P2.13 (io), 166 P0.4 (io), 167 P0.5 (io), 168 P0.12 (io), 169 P0.13 (io), 173 P0.6 (io), 174 P0.7 (io), 175 P0.14 (io), 176 P0.15 (io)
part B pins: 28 AN35 (in) "FADC Analog Input N Channel 1", 29 AN34 (in) "FADC Analog Input P Channel 1", 30 AN33 (in) "FADC Analog Input N Channel 0", 31 AN32 (in) "FADC Analog Input P Channel 0", 32 AN31 (in) "ADC1 / FADC Analog Input Channel 31", 33 AN30 (in) "ADC1 / FADC Analog Input Channel 30", 34 AN29 (in) "ADC1 / FADC Analog Input Channel 29", 35 AN28 (in) "ADC1 / FADC Analog Input Channel 28", 36 AN7 (in) "ADC0 Analog Input Channel 7", 37 AN27 (in) "ADC1 Analog Input Channel 27", 38 AN26 (in) "ADC1 Analog Input Channel 26", 39 AN25 (in) "ADC1 Analog Input Channel 25", 40 AN24 (in) "ADC1 Analog Input Channel 24", 41 AN23 (in) "ADC1 Analog Input Channel 23", 42 AN22 (in) "ADC1 Analog Input Channel 22", 43 AN21 (in) "ADC1 Analog Input Channel 21", 44 AN20 (in) "ADC1 Analog Input Channel 20", 45 AN19 (in) "ADC1 Analog Input Channel 19", 46 AN18 (in) "ADC1 Analog Input Channel 18", 47 AN17 (in) "ADC1 Analog Input Channel 17", 48 AN16 (in) "ADC1 Analog Input Channel 16", 49 AN15 (in) "ADC0 Analog Input Channel 15", 50 AN14 (in) "ADC0 Analog Input Channel 14", 55 AN13 (in) "ADC0 Analog Input Channel 13", 56 AN12 (in) "ADC0 Analog Input Channel 12", 57 AN11 (in) "ADC0 Analog Input Channel 11", 58 AN10 (in) "ADC0 Analog Input Channel 10", 59 AN9 (in) "ADC0 Analog Input Channel 9", 60 AN8 (in) "ADC0 Analog Input Channel 8", 61 AN6 (in) "ADC0 Analog Input Channel 6", 62 AN5 (in) "ADC0 Analog Input Channel 5", 63 AN4 (in) "ADC0 Analog Input Channel 4", 64 AN3 (in) "ADC0 Analog Input Channel 3", 65 AN2 (in) "ADC0 Analog Input Channel 2", 66 AN1 (in) "ADC0 Analog Input Channel 1", 67 AN0 (in) "ADC0 Analog Input Channel 0", 102 XTAL1 "Main Oscillator Input", 103 XTAL2 "Main Oscillator Output", 111 TDI (io), 112 TMS (io), 113 TDO (io), 114 ~{TRST} (in) "JTAG Reset Input", 115 TCK (in), 118 ~{TESTMODE} (in) "Test Mode Select Input", 120 ~{ESR1} (io) "External System Request Reset Input 1", 121 ~{PORST} (in) "Power On Reset Input", 122 ~{ESR0} (io) "External System Request Reset Input 0"
part C pins: 10 VDD (power) "Digital Core Power Supply (1.3V)", 11 VDDP (power) "Port Power Supply (3.3V)", 12 VSS (power) "Digital Ground", 20 VDDP (power) "Port Power Supply (3.3V)", 21 VDD (power) "Digital Core Power Supply (1.3V)", 22 VSS (power) "Digital Ground", 23 VDDAF (power) "FADC Analog Part Logic Power Supply (1.3V)", 24 VDDMF (power) "FADC Analog Part Power Supply (3.3V)", 25 VSSMF (power), 26 VFAREF (power) "FADC Reference Voltage", 27 VFAGND (power) "FADC Reference Ground", 51 VAGND0 (power) "ADC Reference Ground", 52 VAREF0 (power) "ADC0 and ADC1 Reference Voltage", 53 VSSM (power) "ADC Analog Part Ground", 54 VDDM (power) "ADC Analog Part Power Supply (3.3V - 5V)", 68 VDD (power) "Digital Core Power Supply (1.3V)", 69 VDDP (power) "Port Power Supply (3.3V)", 70 VSS (power) "Digital Ground", 82 VSS (power) "Digital Ground", 83 VDDP (power) "Port Power Supply (3.3V)", 84 VDD (power) "Digital Core Power Supply (1.3V)", 85 VSS (power) "Digital Ground", 89 VDDP (power) "Port Power Supply (3.3V)", 91 VDD (power) "Digital Core Power Supply (1.3V)", 92 VSS (power) "Digital Ground", 99 VDD (power) "Digital Core Power Supply (1.3V)", 100 VDDP (power) "Port Power Supply (3.3V)", 101 VSS (power) "Digital Ground", 104 VSSOSC (power) "Main Oscillator and PLL Ground", 105 VDDOSC (power) "Main Oscillator and PLL Power Supply (1.3V)", 106 VDDOSC3 (power) "Main Oscillator Power Supply (3.3V)", 123 VDD (power) "Digital Core Power Supply (1.3V)", 124 VDDP (power) "Port Power Supply (3.3V)", 125 VSS (power) "Digital Ground", 139 VDDP (power) "Port Power Supply (3.3V)", 140 VSS (power) "Digital Ground", 141 VDDFL3 (power) "Power Supply for Flash (3.3V)", 153 VDD (power) "Digital Core Power Supply (1.3V)", 154 VDDP (power) "Port Power Supply (3.3V)", 155 VSS (power) "Digital Ground", 170 VDD (power) "Digital Core Power Supply (1.3V)", 171 VDDP (power) "Port Power Supply (3.3V)", 172 VSS (power) "Digital Ground", 177 EP "Exposed Pad"

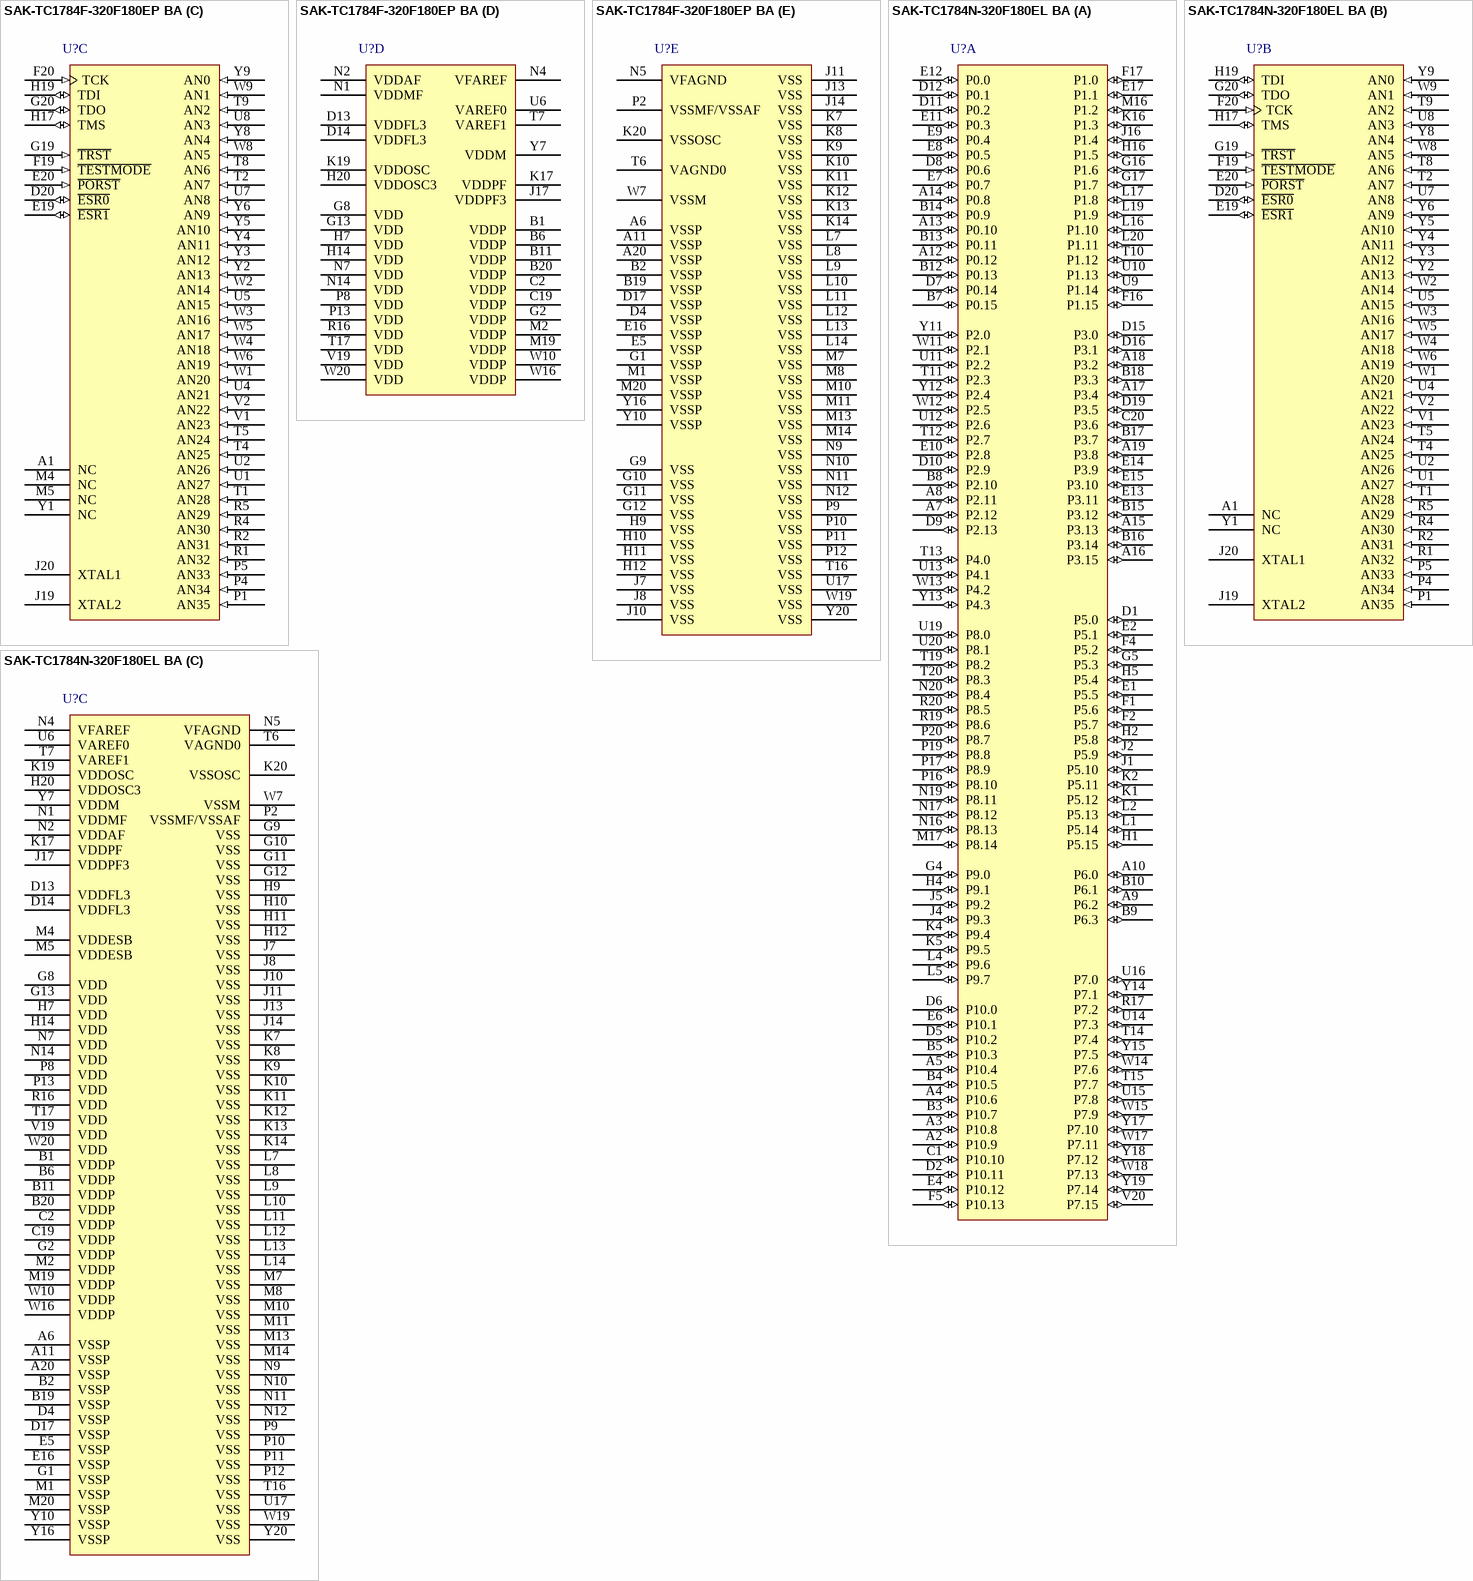
[diagram p54: symbols SAK-TC1784F-320F180EP BA to SAK-TC1784N-320F180EL BA]

## SAK-TC1784F-320F180EP BA
designator U?
180 MHz AUDO MCU with 2.5 MB Program Memory, 176 KByte SRAM, -40 to 125 degC, PG-LFBGA-292, Reel, Green; Manufacturer: Infineon; PartNumber: SAK-TC1784F-320F180EP BA; A / D input lines (incl. FADC): 36; Digital I/O Lines: 91; DMA Channels: 16; DSP functionality (e.g MDU/MAC): FALSE; E2PROM Emulation (Data-Flash): TRUE; I/O Operation Voltages: 3.3 V; Instruction set architecture: TriCore(TM) v1.3.1 (32-bit); Instruction width [bits]: 32/16; LIN BSL loader (for fast Flash programming): FALSE; Max Clock Frequency: 180 MHz; Number of ADC Modules: 2; Power Modes: 3; Program Memory: 2.5 MB; Serial I/O Interfaces: 7; Timed I/O Pins (PWM-Ch,CAPCOM): 122; Timer / Counter: 128; Type of Memory: Flash; Type of Serial I/O Interfaces: UART, SPI, CAN, MSC (MicroSecond Channel), MLI (Multiprocessor Link Interface); DatasheetVersion: Rev. 1.1.1; PackageReference: PG-LFBGA-292-6; PackageDescription: 292-Pin Plastic (Green) Low Profile Fine Pitch Ball Grid Array Package, 17 x 17 mm Body, 0.8 mm Pitch; External Bus interface: TRUE; FlexRayTM: FALSE; Floating Point Unit: TRUE; Green: TRUE; Halogen-free: TRUE; On-chip clock generation: TRUE; On-chip Voltage Regulator: FALSE; Oscillator Watchdog: TRUE; Packing: Reel; Peripheral Control Processor (PCP): TRUE; SRAM (incl. Cache): 176 KByte; Watchdog Timer: TRUE; Mounting Technology: Surface Mount; ComponentLink1Description: Manufacturer URL; ComponentLink1URL: http://www.infineon.com/; ComponentLink2Description: Datasheet; ComponentLink2URL: http://www.infineon.com/dgdl/TC1784_DS_v111.pdf?folderId=db3a304326dfb1300127000d958f65bb&fileId=db3a304336ca04c90136ca92f1cd00a6&ack=t; ComponentLink3Description: Package Specification; ComponentLink3URL: http://www.infineon.com/dgdl/TC1784_DS_v11.pdf?folderId=db3a304326dfb1300127000d958f65bb&fileId=db3a304336ca04c90136ca92f1cd00a6&ack=t
footprint INF-PG-LFBGA-292-6 (BGA, 292-Balls, Body 17x17mm, Pitch 0.8mm)
part A pins: A7 P2.12 (io), A8 P2.11 (io), A12 P0.12 (io), A13 P0.10 (io), A14 P0.8 (io), A15 P3.13 (io), A16 P3.15 (io), A17 P3.4 (io), A18 P3.2 (io), A19 P3.8 (io), B7 P0.15 (io), B8 P2.10 (io), B12 P0.13 (io), B13 P0.11 (io), B14 P0.9 (io), B15 P3.12 (io), B16 P3.14 (io), B17 P3.7 (io), B18 P3.3 (io), C20 P3.6 (io), D7 P0.14 (io), D8 P0.6 (io), D9 P2.13 (io), D10 P2.9 (io), D11 P0.2 (io), D12 P0.1 (io), D15 P3.0 (io), D16 P3.1 (io), D19 P3.5 (io), E7 P0.7 (io), E8 P0.5 (io), E9 P0.4 (io), E10 P2.8 (io), E11 P0.3 (io), E12 P0.0 (io), E13 P3.11 (io), E14 P3.9 (io), E15 P3.10 (io), E17 P1.1 (io), F16 P1.15 (io), F17 P1.0 (io), G16 P1.6 (io), G17 P1.7 (io), H16 P1.5 (io), J16 P1.4 (io), K16 P1.3 (io), L16 P1.10 (io), L17 P1.8 (io), L19 P1.9 (io), L20 P1.11 (io), M16 P1.2 (io), T10 P1.12 (io), T11 P2.3 (io), T12 P2.7 (io), U9 P1.14 (io), U10 P1.13 (io), U11 P2.2 (io), U12 P2.6 (io), W11 P2.1 (io), W12 P2.5 (io), Y11 P2.0 (io), Y12 P2.4 (io)
part B pins: A2 P10.9 (io), A3 P10.8 (io), A4 P10.6 (io), A5 P10.4 (io), A9 P6.2 (io), A10 P6.0 (io), B3 P10.7 (io), B4 P10.5 (io), B5 P10.3 (io), B9 P6.3 (io), B10 P6.1 (io), C1 P10.10 (io), D1 P5.0 (io), D2 P10.11 (io), D5 P10.2 (io), D6 P10.0 (io), E1 P5.5 (io), E2 P5.1 (io), E4 P10.12 (io), E6 P10.1 (io), F1 P5.6 (io), F2 P5.7 (io), F4 P5.2 (io), F5 P10.13 (io), G4 P9.0 (io), G5 P5.3 (io), H1 P5.15 (io), H2 P5.8 (io), H4 P9.1 (io), H5 P5.4 (io), J1 P5.10 (io), J2 P5.9 (io), J4 P9.3 (io), J5 P9.2 (io), K1 P5.12 (io), K2 P5.11 (io), K4 P9.4 (io), K5 P9.5 (io), L1 P5.14 (io), L2 P5.13 (io), L4 P9.6 (io), L5 P9.7 (io), M17 P8.14 (io), N16 P8.13 (io), N17 P8.12 (io), N19 P8.11 (io), N20 P8.4 (io), P16 P8.10 (io), P17 P8.9 (io), P19 P8.8 (io), P20 P8.7 (io), R17 P7.2 (io), R19 P8.6 (io), R20 P8.5 (io), T13 P4.0 (io), T14 P7.4 (io), T15 P7.7 (io), T19 P8.2 (io), T20 P8.3 (io), U13 P4.1 (io), U14 P7.3 (io), U15 P7.8 (io), U16 P7.0 (io), U19 P8.0 (io), U20 P8.1 (io), V20 P7.15 (io), W13 P4.2 (io), W14 P7.6 (io), W15 P7.9 (io), W17 P7.11 (io), W18 P7.13 (io), Y13 P4.3 (io), Y14 P7.1 (io), Y15 P7.5 (io), Y17 P7.10 (io), Y18 P7.12 (io), Y19 P7.14 (io)
part C pins: A1 NC "Not connected.", D20 ~{ESR0} (io) "External System Request Reset Input 0", E19 ~{ESR1} (io) "External System Request Reset Input 1", E20 ~{PORST} (in) "Power On Reset Input", F19 ~{TESTMODE} (in) "Test Mode Select Input", F20 TCK (in), G19 ~{TRST} (in) "JTAG Reset Input", G20 TDO (io), H17 TMS (io), H19 TDI (io), J19 XTAL2 "Oscillator/PLL/Clock Generator Output", J20 XTAL1 "Oscillator/PLL/Clock Generator Input", M4 NC "Not connected.", M5 NC "Not connected.", P1 AN35 (in) "Analog Input 35", P4 AN34 (in) "Analog Input 34", P5 AN33 (in) "Analog Input 33", R1 AN32 (in) "Analog Input 32", R2 AN31 (in) "Analog Input 31", R4 AN30 (in) "Analog Input 30", R5 AN29 (in) "Analog Input 29", T1 AN28 (in) "Analog Input 28", T2 AN7 (in) "Analog Input 7", T4 AN25 (in) "Analog Input 25", T5 AN24 (in) "Analog Input 24", T8 AN6 (in) "Analog Input 6", T9 AN2 (in) "Analog Input 2", U1 AN27 (in) "Analog Input 27", U2 AN26 (in) "Analog Input 26", U4 AN21 (in) "Analog Input 21", U5 AN15 (in) "Analog Input 15", U7 AN8 (in) "Analog Input 8", U8 AN3 (in) "Analog Input 3", V1 AN23 (in) "Analog Input 23", V2 AN22 (in) "Analog Input 22", W1 AN20 (in) "Analog Input 20", W2 AN14 (in) "Analog Input 14", W3 AN16 (in) "Analog Input 16", W4 AN18 (in) "Analog Input 18", W5 AN17 (in) "Analog Input 17", W6 AN19 (in) "Analog Input 19", W8 AN5 (in) "Analog Input 5", W9 AN1 (in) "Analog Input 1", Y1 NC "Not connected.", Y2 AN13 (in) "Analog Input 13", Y3 AN12 (in) "Analog Input 12", Y4 AN11 (in) "Analog Input 11", Y5 AN10 (in) "Analog Input 10", Y6 AN9 (in) "Analog Input 9", Y8 AN4 (in) "Analog Input 4", Y9 AN0 (in) "Analog Input 0"
part D pins: B1 VDDP (power) "Port Power Supply (3.3V)", B6 VDDP (power) "Port Power Supply (3.3V)", B11 VDDP (power) "Port Power Supply (3.3V)", B20 VDDP (power) "Port Power Supply (3.3V)", C2 VDDP (power) "Port Power Supply (3.3V)", C19 VDDP (power) "Port Power Supply (3.3V)", D13 VDDFL3 (power) "Power Supply for Flash (3.3V)", D14 VDDFL3 (power) "Power Supply for Flash (3.3V)", G2 VDDP (power) "Port Power Supply (3.3V)", G8 VDD (power) "Digital Core Power Supply (1.3V)", G13 VDD (power) "Digital Core Power Supply (1.3V)", H7 VDD (power) "Digital Core Power Supply (1.3V)", H14 VDD (power) "Digital Core Power Supply (1.3V)", H20 VDDOSC3 (power) "Main Oscillator Power Supply (3.3V)", J17 VDDPF3 (power) "Flexray Oscillator Power Supply (3.3V)", K17 VDDPF (power) "Flexray Oscillator and PLL Power Supply (1.3V)", K19 VDDOSC (power) "Main Oscillator and PLL Power Supply (1.3V)", M2 VDDP (power) "Port Power Supply (3.3V)", M19 VDDP (power) "Port Power Supply (3.3V)", N1 VDDMF (power) "FADC Analog Part Power Supply (3.3V)", N2 VDDAF (power) "FADC Analog Part Logic Power Supply (1.3V)", N4 VFAREF (power) "FADC Reference Voltage", N7 VDD (power) "Digital Core Power Supply (1.3V)", N14 VDD (power) "Digital Core Power Supply (1.3V)", P8 VDD (power) "Digital Core Power Supply (1.3V)", P13 VDD (power) "Digital Core Power Supply (1.3V)", R16 VDD (power) "Digital Core Power Supply (1.3V)", T7 VAREF1 (power) "ADC1 Reference Voltage", T17 VDD (power) "Digital Core Power Supply (1.3V)", U6 VAREF0 (power) "ADC0 Reference Voltage", V19 VDD (power) "Digital Core Power Supply (1.3V)", W10 VDDP (power) "Port Power Supply (3.3V)", W16 VDDP (power) "Port Power Supply (3.3V)", W20 VDD (power) "Digital Core Power Supply (1.3V)", Y7 VDDM (power) "ADC Analog Part Power Supply (3.3V - 5V)"
part E pins: A6 VSSP (power) "Digital Ground", A11 VSSP (power) "Digital Ground", A20 VSSP (power) "Digital Ground", B2 VSSP (power) "Digital Ground", B19 VSSP (power) "Digital Ground", D4 VSSP (power) "Digital Ground", D17 VSSP (power) "Digital Ground", E5 VSSP (power) "Digital Ground", E16 VSSP (power) "Digital Ground", G1 VSSP (power) "Digital Ground", G9 VSS (power) "Digital Ground", G10 VSS (power) "Digital Ground", G11 VSS (power) "Digital Ground", G12 VSS (power) "Digital Ground", H9 VSS (power) "Digital Ground", H10 VSS (power) "Digital Ground", H11 VSS (power) "Digital Ground", H12 VSS (power) "Digital Ground", J7 VSS (power) "Digital Ground", J8 VSS (power) "Digital Ground", J10 VSS (power) "Digital Ground", J11 VSS (power) "Digital Ground", J13 VSS (power) "Digital Ground", J14 VSS (power) "Digital Ground", K7 VSS (power) "Digital Ground", K8 VSS (power) "Digital Ground", K9 VSS (power) "Digital Ground", K10 VSS (power) "Digital Ground", K11 VSS (power) "Digital Ground", K12 VSS (power) "Digital Ground", K13 VSS (power) "Digital Ground", K14 VSS (power) "Digital Ground", K20 VSSOSC (power) "Main Oscillator and PLL Ground", L7 VSS (power) "Digital Ground", L8 VSS (power) "Digital Ground", L9 VSS (power) "Digital Ground", L10 VSS (power) "Digital Ground", L11 VSS (power) "Digital Ground", L12 VSS (power) "Digital Ground", L13 VSS (power) "Digital Ground", L14 VSS (power) "Digital Ground", M1 VSSP (power) "Digital Ground", M7 VSS (power) "Digital Ground", M8 VSS (power) "Digital Ground", M10 VSS (power) "Digital Ground", M11 VSS (power) "Digital Ground", M13 VSS (power) "Digital Ground", M14 VSS (power) "Digital Ground", M20 VSSP (power) "Digital Ground", N5 VFAGND (power) "FADC Reference Ground", N9 VSS (power) "Digital Ground", N10 VSS (power) "Digital Ground", N11 VSS (power) "Digital Ground", N12 VSS (power) "Digital Ground", P2 VSSMF/VSSAF (power) "FADC Analog Part Ground", P9 VSS (power) "Digital Ground", P10 VSS (power) "Digital Ground", P11 VSS (power) "Digital Ground", P12 VSS (power) "Digital Ground", T6 VAGND0 (power) "ADC Reference Ground", T16 VSS (power) "Digital Ground", U17 VSS (power) "Digital Ground", W7 VSSM (power) "ADC Analog Part Ground", W19 VSS (power) "Digital Ground", Y10 VSSP (power) "Digital Ground", Y16 VSSP (power) "Digital Ground", Y20 VSS (power) "Digital Ground"